# EAGLE library part CONN_FPC_32POS_XF2M-3215-1A (library SMORSE_Chao)
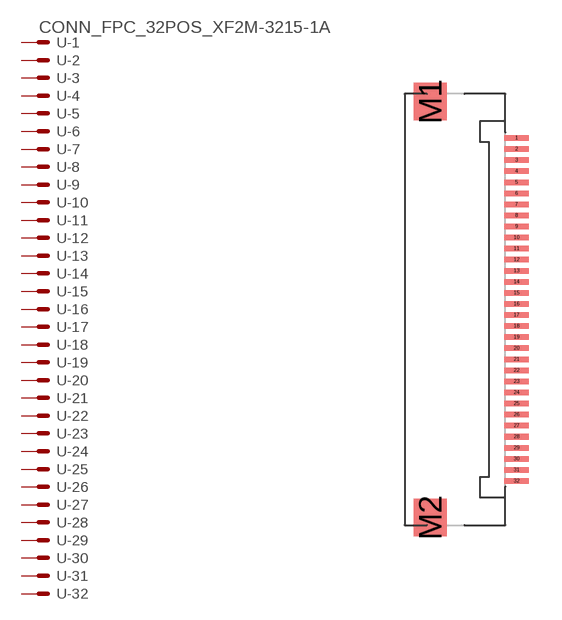
[diagram p16: symbol with the pads of XF2M-3215-1A; footprint XF2M-3215-1A]

Designator prefix -; gates -1=PV -2=P -3=P -4=P -5=P -6=P -7=P -8=P -9=P -10=P -11=P -12=P -13=P -14=P -15=P -16=P -17=P -18=P -19=P -20=P -21=P -22=P -23=P -24=P -25=P -26=P -27=P -28=P -29=P -30=P -31=P -32=P

## CONN_FPC_32POS_XF2M-3215-1A  [XF2M-3215-1A]
1  -1:MSV  pas
2  -2:MS  pas
3  -3:MS  pas
4  -4:MS  pas
5  -5:MS  pas
6  -6:MS  pas
7  -7:MS  pas
8  -8:MS  pas
9  -9:MS  pas
10  -10:MS  pas
11  -11:MS  pas
12  -12:MS  pas
13  -13:MS  pas
14  -14:MS  pas
15  -15:MS  pas
16  -16:MS  pas
17  -17:MS  pas
18  -18:MS  pas
19  -19:MS  pas
20  -20:MS  pas
21  -21:MS  pas
22  -22:MS  pas
23  -23:MS  pas
24  -24:MS  pas
25  -25:MS  pas
26  -26:MS  pas
27  -27:MS  pas
28  -28:MS  pas
29  -29:MS  pas
30  -30:MS  pas
31  -31:MS  pas
32  -32:MS  pas

## Footprint XF2M-3215-1A (pad centres in mm)
smd 1.1 x 0.25: 1 2.59,7.75; 2 2.59,7.25; 3 2.59,6.75; 4 2.59,6.25; 5 2.59,5.75; 6 2.59,5.25; 7 2.59,4.75; 8 2.59,4.25; 9 2.59,3.75; 10 2.59,3.25; 11 2.59,2.75; 12 2.59,2.25; 13 2.59,1.75; 14 2.59,1.25; 15 2.59,0.75; 16 2.59,0.25; 17 2.59,-0.25; 18 2.59,-0.75; 19 2.59,-1.25; 20 2.59,-1.75; 21 2.59,-2.25; 22 2.59,-2.75; 23 2.59,-3.25; 24 2.59,-3.75; 25 2.59,-4.25; 26 2.59,-4.75; 27 2.59,-5.25; 28 2.59,-5.75; 29 2.59,-6.25; 30 2.59,-6.75; 31 2.59,-7.25; 32 2.59,-7.75
smd 1.5 x 1.7: M1 -1.31,9.4; M2 -1.31,-9.4